# Altium schematic symbol library Amplifiers (Op amp).SchLib: 1 symbol
Pins are listed as number, name and electrical type; pins without a type are passive.

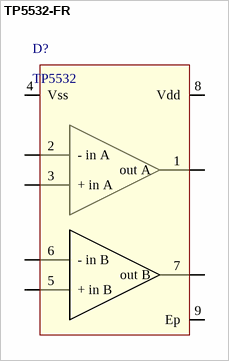
[diagram p0: symbol TP5532-FR]

## TP5532-FR
designator D?, comment TP5532
dual channel operational amplifier; Supply voltage: 6V; Input current: ±20mA; Current at Supply Pins: ±50mA; Operating Temperature Range: –40°C to 125°C
footprint DFN-8
pins: 1 out A, 2 - in A, 3 + in A, 4 Vss, 5 + in B, 6 - in B, 7 out B, 8 Vdd, 9 Ep